# EAGLE library part 61301225721 (library Eagle_BOARD-TO-BOARD_CONNECTORS (rev18b))
WR-PHD 2.54mm Dual Socket Header Bottom Entry, 12 Pins =>Code : Con_BTB_SHD_2.54_2_61301225721 <http://katalog.we-online.de/media/images/eican/Con_BTB_SHD_2.54_2_6130xx25721_pf2.jpg> Details see: http://katalog.we-online.de/en/em/613_0xx_257_21 Created 2014-05-30, Karrer Zheng 2014 (C) Würth Elektronik
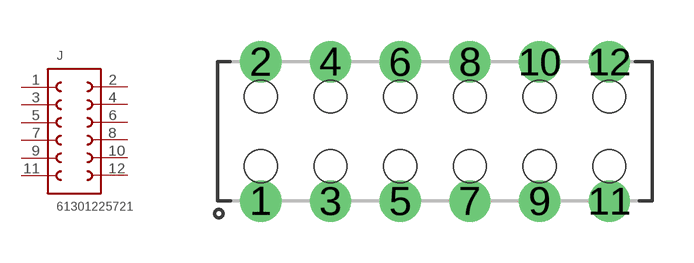
[diagram p155: symbol with the pads of 61301225721; footprint 61301225721]

Designator prefix J

## 61301225721  [61301225721]
1  1  pas
2  12  pas
3  2  pas
4  11  pas
5  3  pas
6  10  pas
7  4  pas
8  9  pas
9  5  pas
10  8  pas
11  6  pas
12  7  pas

## Footprint 61301225721 (pad centres in mm)
WR-PHD 2.54mm Dual Socket Header Bottom Entry, 12 Pins
drill 1 pad 1.4: 1 -6.35,-2.54; 2 -6.35,2.54; 3 -3.81,-2.54; 4 -3.81,2.54; 5 -1.27,-2.54; 6 -1.27,2.54; 7 1.27,-2.54; 8 1.27,2.54; 9 3.81,-2.54; 10 3.81,2.54; 11 6.35,-2.54; 12 6.35,2.54
hole 1.2 at -6.35,1.27
hole 1.2 at -3.81,1.27
hole 1.2 at -3.81,-1.27
hole 1.2 at -6.35,-1.27
hole 1.2 at -1.27,-1.27
hole 1.2 at -1.27,1.27
hole 1.2 at 1.27,1.27
hole 1.2 at 1.27,-1.27
hole 1.2 at 3.81,1.27
hole 1.2 at 3.81,-1.27
hole 1.2 at 6.35,-1.27
hole 1.2 at 6.35,1.27